# EAGLE library part PE4259 (library Pinoccio)
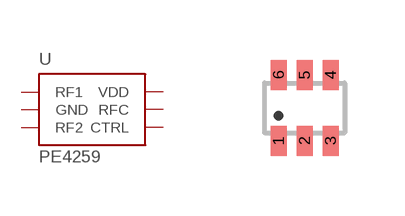
[diagram p50: symbol with the pads of SC70-6; footprint SC70-6]

Designator prefix -

## PE4259  [SC70-6]
1  RF1  out
2  GND
3  RF2  out
4  CTRL  in
5  RFC  in
6  VDD  in

## Footprint SC70-6 (pad centres in mm)
smd 0.4 x 0.75: 1 -0.65,-0.825; 2 0,-0.825; 3 0.65,-0.825; 4 0.65,0.825; 5 0,0.825; 6 -0.65,0.825